# EAGLE library part M-1X06- (library con-headers-jp)
MALE HEADER
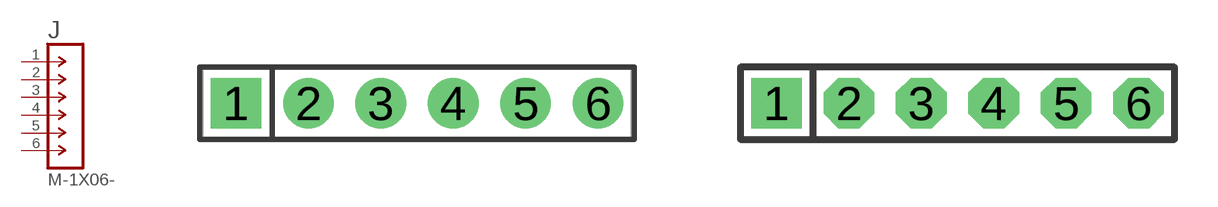
[diagram p48: symbol with the pads of SIP-100-06-40; footprints SIP-100-06-40, SIP-100-06-32]

Designator prefix J

## M-1X06-SIP-100-40  [SIP-100-06-40]
1  1  pas
2  2  pas
3  3  pas
4  4  pas
5  5  pas
6  6  pas

## M-1X06-SIP-100-32  [SIP-100-06-32]
Pads as for SIP-100-06-40

## M-1X06-SIP-100-32Y  [SIP-100-06-32Y]
Pads as for SIP-100-06-40

## M-1X06-SIP-100-40Y  [SIP-100-06-40Y]
Pads as for SIP-100-06-40

## M-1X06-2MM-32  [SIP-2MM-06-32]
Pads as for SIP-100-06-40

## M-1X06-050-26  [SIP-.050-1X06]
Pads as for SIP-100-06-40

## Footprint SIP-100-06-40 (pad centres in mm)
SIP Header - 0.1", 40 mil drill
drill 1.016 pad 1.778 square: 1 -6.35,0
drill 1.016 pad 1.778: 2 -3.81,0; 3 -1.27,0; 4 1.27,0; 5 3.81,0; 6 6.35,0

## Footprint SIP-100-06-32 (pad centres in mm)
SIP Header - 0.1", 32 mil drill
drill 0.813 pad 1.778 square: 1 -6.35,0
drill 0.813 pad 1.778 octagon: 2 -3.81,0; 3 -1.27,0; 4 1.27,0; 5 3.81,0; 6 6.35,0

## Footprint SIP-100-06-32Y (pad centres in mm)
SIP Header - 0.1", 32 mil drill
drill 0.813 long: 1 -6.35,0; 2 -3.81,0; 3 -1.27,0; 4 1.27,0; 5 3.81,0; 6 6.35,0

## Footprint SIP-100-06-40Y (pad centres in mm)
SIP Header - 0.1", 40 mil drill
drill 1.016 long: 1 -6.35,0; 2 -3.81,0; 3 -1.27,0; 4 1.27,0; 5 3.81,0; 6 6.35,0

## Footprint SIP-2MM-06-32 (pad centres in mm)
SIP Header - 2mm, 32 mil drill
drill 0.813 pad 1.422 square: 1 -5,0
drill 0.813 pad 1.422: 2 -3,0; 3 -1,0; 4 1,0; 5 3,0; 6 5,0

## Footprint SIP-.050-1X06 (pad centres in mm)
SIP Header - .050", 26 mil drill
drill 0.66 pad 1.118 square: 1 -3.175,0
drill 0.66 pad 1.118: 2 -1.905,0; 3 -0.635,0; 4 0.635,0; 5 1.905,0; 6 3.175,0